# EAGLE library part 1778612 (library KVB-connectors)
8 Position Terminal Block Header Male Pins Shrouded (4 Side) 0.098" (2.50mm) Vertical Through Hole
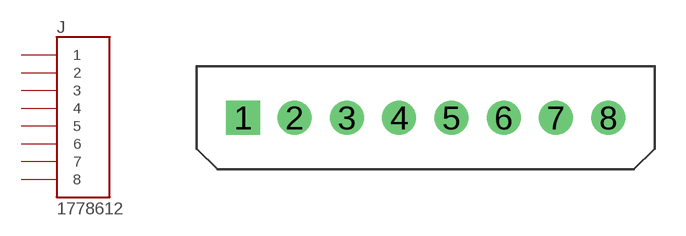
[diagram p15: symbol with the pads of 1778612; footprint 1778612]

Designator prefix J

## 1778612 (MAN-PART_NUM: 1778612; MANUFACTURER: Phoenix Contact)  [1778612]
1  1
2  2
3  3
4  4
5  5
6  6
7  7
8  8

## Footprint 1778612 (pad centres in mm)
drill 1.1 square: 1 -8.87,0
drill 1.1: 2 -6.37,0; 3 -3.83,0; 4 -1.29,0; 5 1.25,0; 6 3.79,0; 7 6.33,0; 8 8.87,0